# Altium schematic symbol library WP-PFEFUA.SchLib: 7 symbols
Pins are listed as number, name and electrical type; pins without a type are passive.

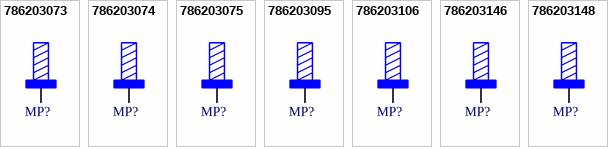
[diagram p0: symbols 786203073 to 786203148]

## 786203073
designator MP?  (value not drawn)
WP-PFEFUA REDCUBE PRESS-FIT ASP External thread Full Plain, 7 x 7mm, Thread Length 4mm, 130A; Manufacturer: Wurth Elektronik; Manufacturer Part Number: 786203073; Category: REDCUBE PRESS-FIT; Match Code: WP-PFEFUA; ComponentLink1Description: Website Link; ComponentLink1URL: https://www.we-online.com/redexpert/article/786203073?ad; ComponentLink2Description: Datasheet Link; ComponentLink2URL: https://www.we-online.com/redexpert/spec/786203073?ad; Mount: Press Fit; Operating Temperature Max: 150°C; Operating Temperature Min: -55°C; Packaging: Bulk; Length: 7mm; Width: 7mm; Height: 10.5mm; Automotive: Yes; Number of Pins: 9; Rated Current: 130A; Thread Length: 4mm
footprint 786203073
pins: 1

## 786203074
designator MP?  (value not drawn)
WP-PFEFUA REDCUBE PRESS-FIT ASP External thread Full Plain, 7 x 7mm, Thread Length 4.6mm, 130A; Manufacturer: Wurth Elektronik; Manufacturer Part Number: 786203074; Category: REDCUBE PRESS-FIT; Match Code: WP-PFEFUA; ComponentLink1Description: Website Link; ComponentLink1URL: https://www.we-online.com/redexpert/article/786203074?ad; ComponentLink2Description: Datasheet Link; ComponentLink2URL: https://www.we-online.com/redexpert/spec/786203074?ad; Mount: Press Fit; Operating Temperature Max: 150°C; Operating Temperature Min: -55°C; Packaging: Bulk; Length: 7mm; Width: 7mm; Height: 12mm; Automotive: Yes; Number of Pins: 9; Rated Current: 130A; Thread Length: 4.6mm
footprint 786203074
pins: 1

## 786203075
designator MP?  (value not drawn)
WP-PFEFUA REDCUBE PRESS-FIT ASP External thread Full Plain, 7 x 7mm, Thread Length 6.5mm, 130A; Manufacturer: Wurth Elektronik; Manufacturer Part Number: 786203075; Category: REDCUBE PRESS-FIT; Match Code: WP-PFEFUA; ComponentLink1Description: Website Link; ComponentLink1URL: https://www.we-online.com/redexpert/article/786203075?ad; ComponentLink2Description: Datasheet Link; ComponentLink2URL: https://www.we-online.com/redexpert/spec/786203075?ad; Mount: Press Fit; Operating Temperature Max: 150°C; Operating Temperature Min: -55°C; Packaging: Bulk; Length: 7mm; Width: 7mm; Height: 15mm; Automotive: Yes; Number of Pins: 9; Rated Current: 130A; Thread Length: 6.5mm
footprint 786203075
pins: 1

## 786203095
designator MP?  (value not drawn)
WP-PFEFUA REDCUBE PRESS-FIT ASP External thread Full Plain, 9 x 9mm, Thread Length 6.5mm, 180A; Manufacturer: Wurth Elektronik; Manufacturer Part Number: 786203095; Category: REDCUBE PRESS-FIT; Match Code: WP-PFEFUA; ComponentLink1Description: Website Link; ComponentLink1URL: https://www.we-online.com/redexpert/article/786203095?ad; ComponentLink2Description: Datasheet Link; ComponentLink2URL: https://www.we-online.com/redexpert/spec/786203095?ad; Mount: Press Fit; Operating Temperature Max: 150°C; Operating Temperature Min: -55°C; Packaging: Bulk; Length: 9mm; Width: 9mm; Height: 15.5mm; Automotive: Yes; Number of Pins: 16; Rated Current: 180A; Thread Length: 6.5mm
footprint 786203095
pins: 1

## 786203106
designator MP?  (value not drawn)
WP-PFEFUA REDCUBE PRESS-FIT ASP External thread Full Plain, 10 x 10mm, Thread Length 8mm, 180A; Manufacturer: Wurth Elektronik; Manufacturer Part Number: 786203106; Category: REDCUBE PRESS-FIT; Match Code: WP-PFEFUA; ComponentLink1Description: Website Link; ComponentLink1URL: https://www.we-online.com/redexpert/article/786203106?ad; ComponentLink2Description: Datasheet Link; ComponentLink2URL: https://www.we-online.com/redexpert/spec/786203106?ad; Mount: Press Fit; Operating Temperature Max: 150°C; Operating Temperature Min: -55°C; Packaging: Bulk; Length: 10mm; Width: 10mm; Height: 17.5mm; Automotive: Yes; Number of Pins: 16; Rated Current: 180A; Thread Length: 8mm
footprint 786203106
pins: 1

## 786203146
designator MP?  (value not drawn)
WP-PFEFUA REDCUBE PRESS-FIT ASP External thread Full Plain, 14 x 14mm, Thread Length 8mm, 250A; Manufacturer: Wurth Elektronik; Manufacturer Part Number: 786203146; Category: REDCUBE PRESS-FIT; Match Code: WP-PFEFUA; ComponentLink1Description: Website Link; ComponentLink1URL: https://www.we-online.com/redexpert/article/786203146?ad; ComponentLink2Description: Datasheet Link; ComponentLink2URL: https://www.we-online.com/redexpert/spec/786203146?ad; Mount: Press Fit; Operating Temperature Max: 150°C; Operating Temperature Min: -55°C; Packaging: Bulk; Length: 14mm; Width: 14mm; Height: 18.5mm; Automotive: Yes; Number of Pins: 16; Rated Current: 250A; Thread Length: 8mm
footprint 786203146
pins: 1

## 786203148
designator MP?  (value not drawn)
WP-PFEFUA REDCUBE PRESS-FIT ASP External thread Full Plain, 14 x 14mm, Thread Length 10.5mm, 250A; Manufacturer: Wurth Elektronik; Manufacturer Part Number: 786203148; Category: REDCUBE PRESS-FIT; Match Code: WP-PFEFUA; ComponentLink1Description: Website Link; ComponentLink1URL: https://www.we-online.com/redexpert/article/786203148?ad; ComponentLink2Description: Datasheet Link; ComponentLink2URL: https://www.we-online.com/redexpert/spec/786203148?ad; Mount: Press Fit; Operating Temperature Max: 150°C; Operating Temperature Min: -55°C; Packaging: Bulk; Length: 14mm; Width: 14mm; Height: 23.5mm; Automotive: Yes; Number of Pins: 16; Rated Current: 250A; Thread Length: 10.5mm
footprint 786203148
pins: 1